# EAGLE library part 61400826021 (library WR-USB)
WR-USB Standard Connectors Characteristics Widely used Type-A and Type-B connectors, available in different orientation Various mount types: SMT, THT, THR Pin configuration: 4 pins for USB 2.0 / 9 pins for USB 3.x Durable and backward compatible with older USB versions UL, TID listing for USB standards Applications Office and desktop computing systems Industrial control and automation equipment Consumer electronics and peripherals Audio-visual and broadcast systems Details see: www.we-online.com/en/components/products/INPUT_OUTPUT_WR_USB_STANDARD Updated by Ella 2024-05-21 2024 (C) Würth Elektronik
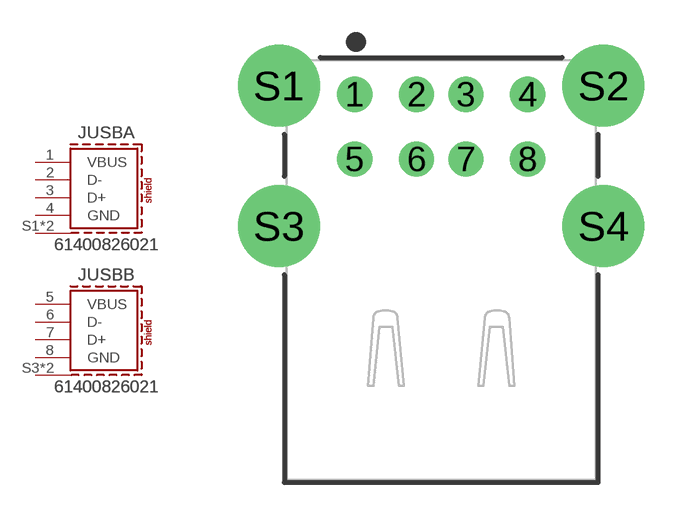
[diagram p20: symbol with the pads of 61400826021; footprint 61400826021]

Designator prefix J; gates USBA=USB2.0_TYPEA USBB=USB2.0_TYPEA

## 61400826021 (APPLICATION: USB 2.0; DATASHEET: https://www.we-online.com/redexpert/spec/61400826021?ae; GERDER: Receptacle; INTERFACE-TYPE: Type A; IR: 1.5 A; MOUNT: THT; PACKAGING: Tray; PART-NUMBER: 61400826021; PINS: 8pcs; TYPE: Stacked Horizontal; VALUE: 61400826021; WORKING-VOLTAGE: 30 V (AC))  [61400826021]
1  USBA:VBUS  pas
2  USBA:D-  pas
3  USBA:D+  pas
4  USBA:GND  pas
5  USBB:VBUS  pas
6  USBB:D-  pas
7  USBB:D+  pas
8  USBB:GND  pas
S1  USBA:SHIELD  pas
S2  USBA:SHIELD  pas
S3  USBB:SHIELD  pas
S4  USBB:SHIELD  pas

## Footprint 61400826021 (pad centres in mm)
WR-USB Standard Connectors USB 2.0, Type A, Stacked Horizontal THT, 8Pins
drill 0.92: 1 -3.5,7.11; 2 -1,7.11; 3 1,7.11; 4 3.5,7.11; 5 -3.5,4.49; 6 -1,4.49; 7 1,4.49; 8 3.5,4.49
drill 2.3: S1 -6.57,7.46; S2 6.57,7.46; S3 -6.57,1.78; S4 6.57,1.78